# EAGLE library part CON_TANSHI3 (library mylib_20130829)
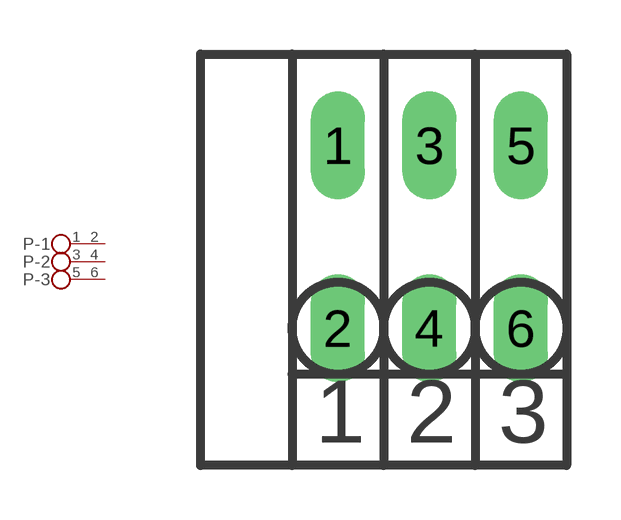
[diagram p15: symbol with the pads of CON_FFKV3; footprint CON_FFKV3]

Designator prefix P; gates -1=CON_KL2 -2=CON_KL2 -3=CON_KL2

## CON_TANSHI3  [CON_FFKV3]
1  -1:1  pas
2  -1:2  pas
3  -2:1  pas
4  -2:2  pas
5  -3:1  pas
6  -3:2  pas

## Footprint CON_FFKV3 (pad centres in mm)
PHOENIX
drill 0.991 long: 1 -1.27,2.54; 2 -1.27,-2.54; 3 1.27,2.54; 4 1.27,-2.54; 5 3.81,2.54; 6 3.81,-2.54